# EAGLE library part 6180XX325223_618015325223 (library WR-DSUB)
WR-DSUB Female High Density Angled PCB Connector w/o Hex Screw Kind Properties :Quality Class:3 as per CECC 75 301-802 Gender:Female Type:Angled Insulator Material:PBT Insulator Flammability Rating:UL94 V-0 Color:Black Contact Material:Copper Alloy Contact Plating:Selective Gold Contact Type:Stamped Shielding Material:Steel Shielding Plating:Nickel General Information Operating Temperature:-55 up to +105 °C Compliance:RoHS Electrical Properties IR 1:3 A Working Voltage:60V (AC) Withstanding Voltage:1000 V (AC) Contact Resistance:30 mΩ <https://www.we-online.com/components/media/o33091v209%20Family_WR-DSUB_6180xx325223.jpg> Details see: www.we-online.com/en/components/products/DSUB_FEMALE_HIGH_DENSITY_ANGLED_PCB_CONNECTOR_W_O_HEX_SCREW_6180XX325223 Updated by Ella Wu 2023-03-21 2023 (C) Würth Elektronik
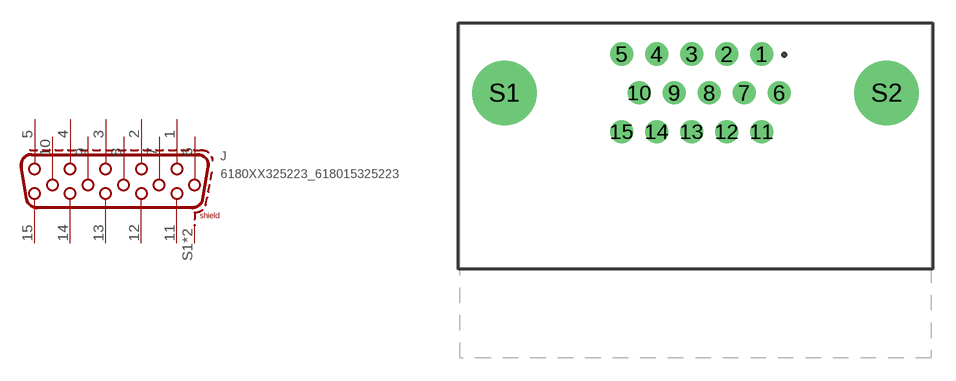
[diagram p9: symbol with the pads of 618015325223; footprint 618015325223]

Designator prefix J

## 6180XX325223_618015325223 (DATASHEET-URL: https://www.we-online.com/redexpert/spec/618015325223?ae; GENDER: Female; PART-NUMBER: 618015325223; PINS: 15; TYPE: Angled; VALUE: 618015325223; WE-NUMBER: 618026325223; WORKING-VOLTAGE: 60 V(AC))  [618015325223]
1  1
2  2
3  3
4  4
5  5
6  6
7  7
8  8
9  9
10  10
11  11
12  12
13  13
14  14
15  15
S1  SHIELD
S2  SHIELD

## Footprint 618015325223 (pad centres in mm)
WR-DSUB Male High Density Angled PCB Connector without Hex Screw, 15 Pins
drill 1: 1 4.326,8.97; 2 2.036,8.97; 3 -0.254,8.97; 4 -2.544,8.97; 5 -4.834,8.97; 6 5.471,6.43; 7 3.181,6.43; 8 0.891,6.43; 9 -1.399,6.43; 10 -3.689,6.43; 11 4.326,3.89; 12 2.036,3.89; 13 -0.254,3.89; 14 -2.544,3.89; 15 -4.834,3.89
drill 3.2: S1 -12.495,6.43; S2 12.495,6.43